# EAGLE library part XA-SMT-7PIN (library NFR23_v1.1)
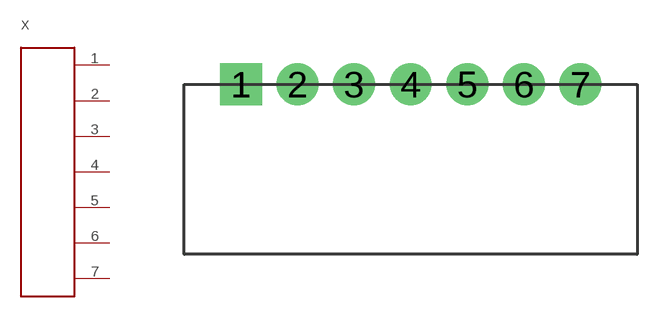
[diagram p9: symbol with the pads of XA-SMT-7PIN; footprint XA-SMT-7PIN]

Designator prefix X

## XA-SMT-7PIN  [XA-SMT-7PIN]
1  1  pas
2  2  pas
3  3  pas
4  4  pas
5  5  pas
6  6  pas
7  7  pas

## Footprint XA-SMT-7PIN (pad centres in mm)
drill 1.016 pad 1.88 square: 1 0,0
drill 1.016 pad 1.88: 2 2.54,0; 3 5.08,0; 4 7.62,0; 5 10.16,0; 6 12.7,0; 7 15.24,0